# EAGLE library part BMP085 (library bmp085)
BMP085 Digital pressure sensor
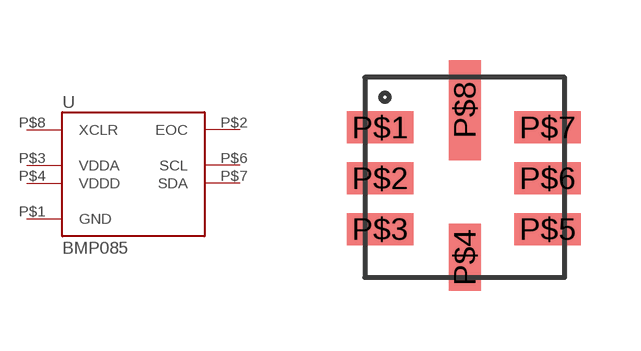
[diagram p0: symbol with the pads of BMP085; footprint BMP085]

Designator prefix -

## BMP085  [BMP085]
P$1  GND  pwr
P$2  EOC  out
P$3  VDDA  pwr
P$4  VDDD  pwr
P$5  NC  nc
P$6  SCL  in
P$7  SDA
P$8  XCLR  in

## Footprint BMP085 (pad centres in mm)
smd 1.67 x 0.8: P$1 -2.159,1.206; P$2 -2.159,-0.064; P$3 -2.159,-1.333; P$5 2.032,-1.333; P$6 2.032,-0.064; P$7 2.032,1.206
smd 0.8 x 1.67: P$4 -0.04,-2.04
smd 0.8 x 2.5: P$8 -0.04,1.643